# EAGLE library part ST890CDR (library ST890CDR)
Power Switch ICs - Power Distribution 1.2A Hi-Side Switch Source: Datasheet <https://componentsearchengine.com/Datasheets/1/ST890CDR.pdf>
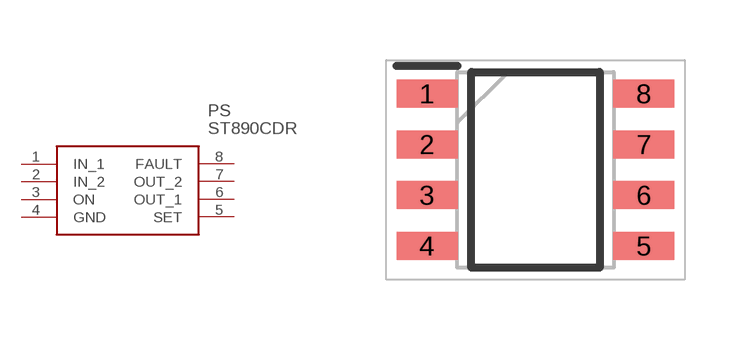
[diagram p0: symbol with the pads of SOIC127P600X175-8N; footprint SOIC127P600X175-8N]

Designator prefix PS

## ST890CDR (Arrow_Part_Number: ST890CDR; Arrow_Price-Stock: https://www.arrow.com/en/products/st890cdr/stmicroelectronics; Description: Power Switch ICs - Power Distribution 1.2A Hi-Side Switch; Height: 1.75mm; Manufacturer_Name: STMicroelectronics; Manufacturer_Part_Number: ST890CDR; Mouser_Part_Number: 511-ST890CDR; Mouser_Price-Stock: https://www.mouser.co.uk/ProductDetail/STMicroelectronics/ST890CDR?qs=anjNcgmNmq47rGyC%252B2JfAg%3D%3D)  [SOIC127P600X175-8N]
1  IN_1
2  IN_2
3  ON
4  GND
5  SET
6  OUT_1
7  OUT_2
8  FAULT

## Footprint SOIC127P600X175-8N (pad centres in mm)
SO8
smd 1.525 x 0.7: 1 -2.712,1.905; 2 -2.712,0.635; 3 -2.712,-0.635; 4 -2.712,-1.905; 5 2.712,-1.905; 6 2.712,-0.635; 7 2.712,0.635; 8 2.712,1.905